# Altium schematic symbol library Mechanical.SchLib: 2 symbols
Pins are listed as number, name and electrical type; pins without a type are passive.

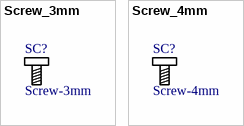
[diagram p0: symbols Screw_3mm to Screw_4mm]

## Screw_3mm
designator SC?, comment Screw-3mm  (no BOM)

## Screw_4mm
designator SC?, comment Screw-4mm  (no BOM)